# EAGLE library part LT3467 (library xmaker)
Linear Technology LT3467 - 1.1A Step-Up DC/DC Converter with Integrated Soft-Start
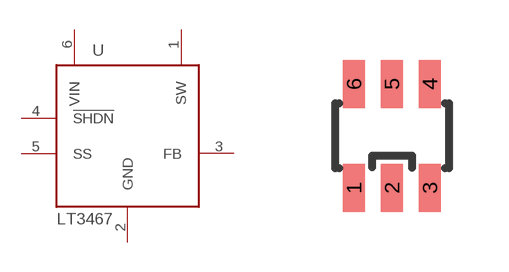
[diagram p19: symbol with the pads of SOT23-6; footprint SOT23-6]

Designator prefix U

## LT3467ES6  [SOT23-6]
1  SW
2  GND
3  FB
4  !SHDN
5  SS
6  VIN

## Footprint SOT23-6 (pad centres in mm)
Small Outline Transistor
smd 0.55 x 1.2: 1 -0.95,-1.3; 2 0,-1.3; 3 0.95,-1.3; 4 0.95,1.3; 5 0,1.3; 6 -0.95,1.3